# Altium footprint library MT-MONITOR V1.0.0.PcbLib: 47 footprints (part 2 of 3)
Each footprint in its own frame and in the unit in brackets; x right, y up, seen from the top. Pads: shape width x height; smd on the part's side, far side on the other; paste and mask are expansions set on the pad; w line width, h text height; cw(c..) or ccw(c..) is an arc to the next point about the centre after c.
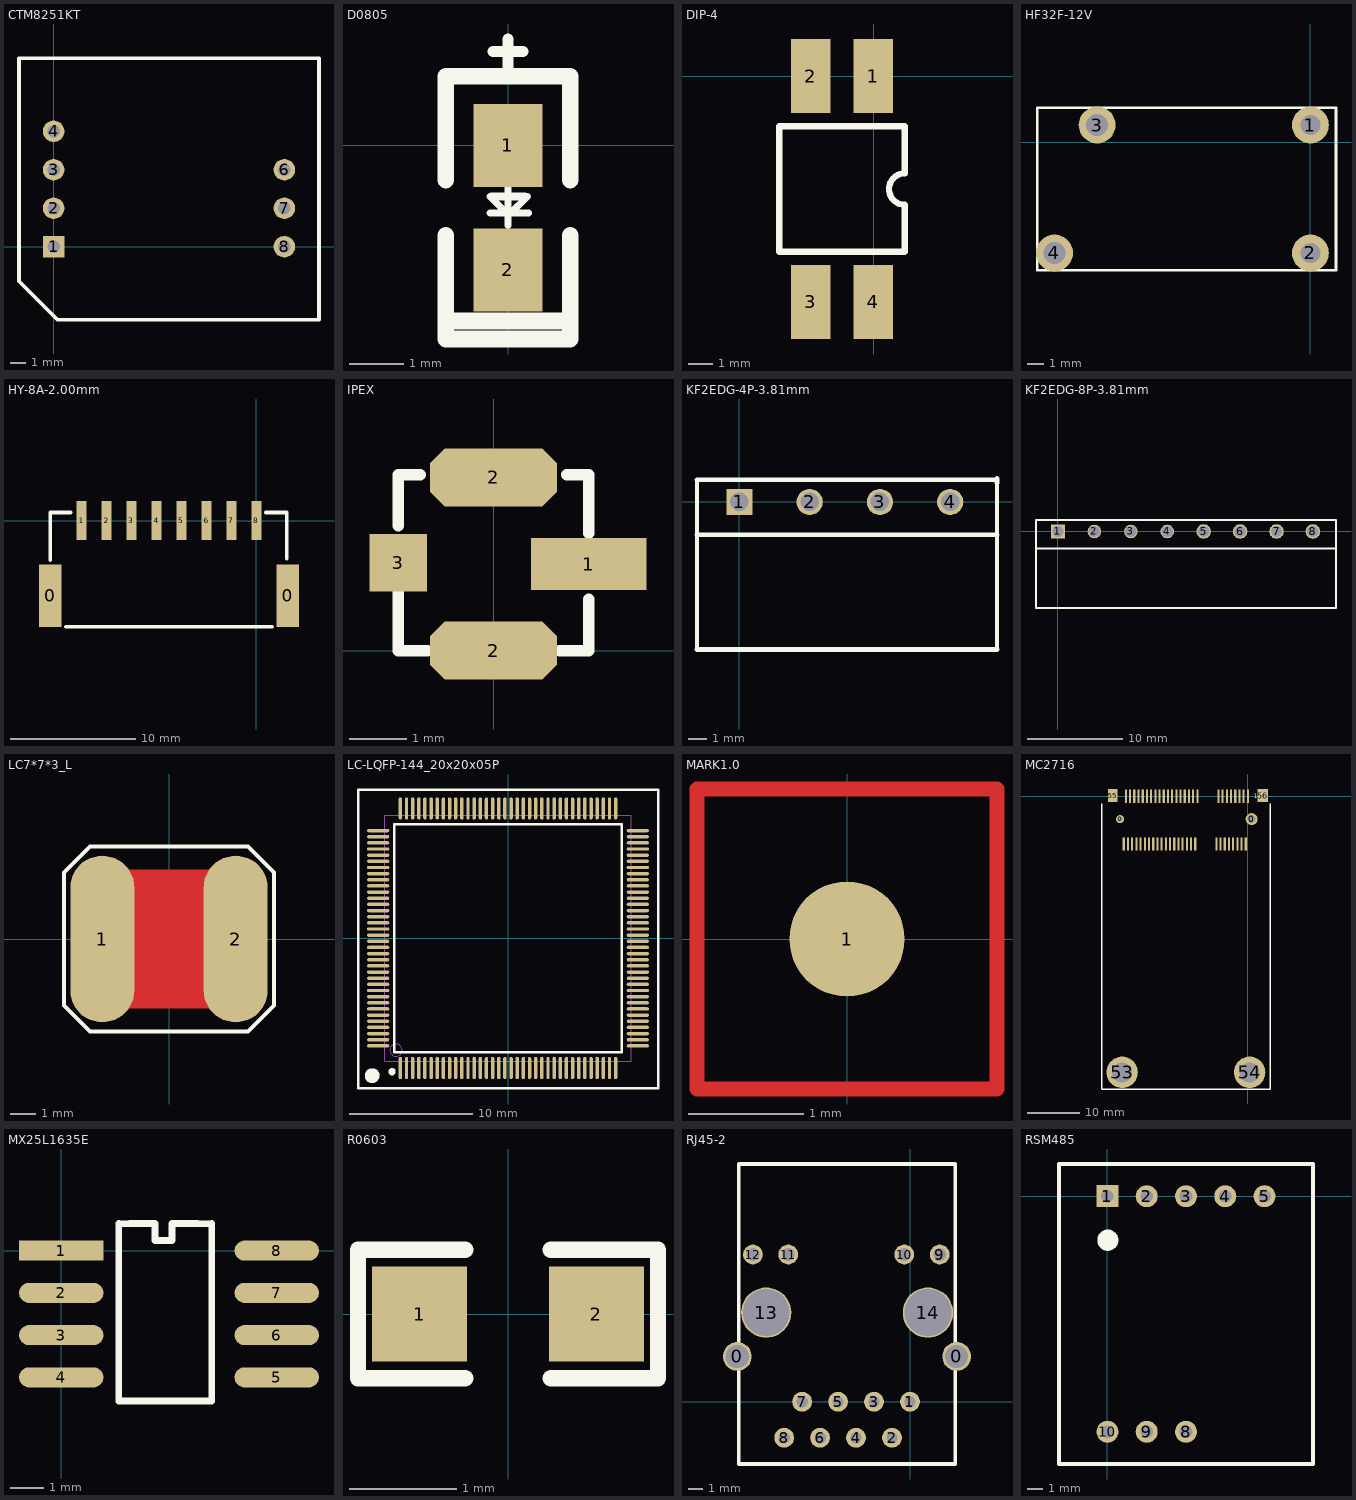
[diagram p1: the footprints below, top view; thin cyan lines are the x and y axes]

## CTM8251KT [mil]
height 66.93
pads (7):
  rect 56x56 hole 32: 1(0,0)
  round 56 hole 32: 2(0,100) 3(0,200) 4(0,300) 6(600,200) 7(600,100) 8(600,0)
Top Overlay:
  lines w10: -90,-90 -90,490 690,490 690,-190 10,-190 -90,-90
3D body: height 275.59, standoff 1, extent -90,-190 690,490

## D0805 [mil]
pads (2):
  rect 50x60 smd: 1(-0.34,-0.09) 2(-0.34,-90.09)
Top Overlay:
  lines w5: -13.34,-49.09 14.66,-49.09 ; -13.34,-37.09 -1.34,-49.09 ; -0.34,-58.09 -0.34,-30.09 ; 1.66,-49.09 13.66,-37.09
  lines w6: -12.34,-37.09 11.66,-37.09
  lines w8: -11.34,67.91 10.66,67.91 ; -0.34,55.91 -0.34,76.91
  lines w12: -45.34,-127.09 44.66,-127.09 ; -45.34,-65.09 -45.34,-140.09 44.66,-140.09 44.66,-65.09 ; -45.34,-25.09 -45.34,49.91 44.66,49.91 44.66,-25.09

## DIP-4 [mm]
height 0.241
pads (4):
  rect 1.6x3 smd: 1(-0.008,0.015) 2(-2.548,0.015) 3(-2.548,-9.129) 4(-0.008,-9.129)
Top Overlay:
  lines w0.254: -3.823,-7.1 -3.823,-2.02 1.257,-2.02 1.257,-3.925 ccw(c1.257,-4.56) 1.257,-5.195 1.257,-7.1 -3.823,-7.1

## HF32F-12V [mm]
height 0.241
pads (4):
  round 2.2 hole 1.2: 1(0,1.016) 2(0,-6.604)
  round 2.2 hole 1.3: 3(-12.7,1.016) 4(-15.24,-6.604)
Top Overlay:
  lines w0.152: -16.256,-7.62 1.524,-7.62 1.524,-7.112 1.524,1.016 1.524,2.032 0.508,2.032 -16.256,2.032 -16.256,1.016 -16.256,-7.62

## HY-8A-2.00mm [mm]
pads (10):
  rect 1.8x5 smd: 0(-16.5,-6) 0(2.5,-6)
  rect 0.8x3.1 smd: 1(-14,0) 2(-12,0) 3(-10,0) 4(-8,0) 5(-6,0) 6(-4,0) 7(-2,0) 8(0,0)
Top Overlay:
  lines w0.3: -16.51,-3.175 -16.51,0.635 -14.859,0.635 ; -15.24,-8.509 1.27,-8.509 ; 0.762,0.635 2.413,0.635 2.413,-3.048

## IPEX [mm]
height 2.5
pads (4):
  rect 2x0.9 smd: 1(1.651,1.5)
  oct 2.2x1 smd: 2(0,0) 2(0,3)
  rect 1x1 smd: 3(-1.651,1.524)
Top Overlay:
  lines w0.2: -1.651,0.786 -1.651,0 ; -1.651,1.016 -1.651,0 ; -1.651,2.159 -1.651,2.794 -1.651,3.048 -1.27,3.048 ; -1.146,-0.003 -1.421,-0.003 -1.648,-0.003 -1.651,0 ; 1.143,0 1.651,0 ; 1.651,2.032 1.651,3.048 ; 1.651,0 1.651,0.889 1.651,0 ; 1.651,0 1.648,-0.003 1.651,0 ; 1.651,3.048 1.27,3.048 1.651,3.048

## KF2EDG-4P-3.81mm [mil]
pads (4):
  rect 56x56 hole 39.37: 1(0,0)
  round 56 hole 39.37: 2(150,0) 3(300,0) 4(450,0)
Top Overlay:
  lines w7.87: -90.55,-314.96 -90.55,47.24
  lines w8: 550,-315 550,40
  lines w10: -90.55,-314.96 549.96,-314.96 ; -90.55,-70 550,-70 ; -90.55,47.24 542.76,47.24 ; 550,40 550,50

## KF2EDG-8P-3.81mm [mil]
height 9.5
pads (8):
  rect 56x56 hole 47.24: 1(0,0)
  round 56 hole 47.24: 2(150,0) 3(300,0) 4(450,0)
  round 60 hole 47.24: 5(600,0) 6(750,0) 7(900,0) 8(1050,0)
Top Overlay:
  lines w7.87: -90.55,-70 1145,-70 ; -90.55,-314.96 1145,-314.96 1145,47.24 -90.55,47.24 -90.55,-314.96

## LC7*7*3_L [mm]
pads (2):
  oval 2.5x6.5 smd: 1(-2.6,0) 2(2.6,0)
Top Layer:
  pour cut-out: -1.803,2.705 1.854,2.705 1.854,-2.705 -1.803,-2.705
Top Overlay:
  lines w0.152: 3.048,-3.607 -2.565,-3.607 -3.073,-3.607 -4.089,-2.591 -4.089,2.591 -3.073,3.607 -2.464,3.607 3.073,3.607 4.089,2.591 4.089,-2.591 3.073,-3.607
3D body: height 3.5, standoff 0, extent -2.455,-2.4 1.845,2.4

## LC-LQFP-144_20x20x05P [mm]
pads (144):
  oval 0.28x1.8 smd mask+0.051: 1(-8.75,-10.55) 2(-8.25,-10.55) 3(-7.75,-10.55) 4(-7.25,-10.55) 5(-6.75,-10.55) 6(-6.25,-10.55) 7(-5.75,-10.55) 8(-5.25,-10.55) 9(-4.75,-10.55) 10(-4.25,-10.55) 11(-3.75,-10.55) 12(-3.25,-10.55) 13(-2.75,-10.55) 14(-2.25,-10.55) 15(-1.75,-10.55) 16(-1.25,-10.55) 17(-0.75,-10.55) 18(-0.25,-10.55) 19(0.25,-10.55) 20(0.75,-10.55) 21(1.25,-10.55) 22(1.75,-10.55) 23(2.25,-10.55) 24(2.75,-10.55) 25(3.25,-10.55) 26(3.75,-10.55) 27(4.25,-10.55) 28(4.75,-10.55) 29(5.25,-10.55) 30(5.75,-10.55) 31(6.25,-10.55) 32(6.75,-10.55) 33(7.25,-10.55) 34(7.75,-10.55) 35(8.25,-10.55) 36(8.75,-10.55) 73(8.75,10.55) 74(8.25,10.55) 75(7.75,10.55) 76(7.25,10.55) 77(6.75,10.55) 78(6.25,10.55) 79(5.75,10.55) 80(5.25,10.55) 81(4.75,10.55) 82(4.25,10.55) 83(3.75,10.55) 84(3.25,10.55) 85(2.75,10.55) 86(2.25,10.55) 87(1.75,10.55) 88(1.25,10.55) 89(0.75,10.55) 90(0.25,10.55) 91(-0.25,10.55) 92(-0.75,10.55) 93(-1.25,10.55) 94(-1.75,10.55) 95(-2.25,10.55) 96(-2.75,10.55) 97(-3.25,10.55) 98(-3.75,10.55) 99(-4.25,10.55) 100(-4.75,10.55) 101(-5.25,10.55) 102(-5.75,10.55) 103(-6.25,10.55) 104(-6.75,10.55) 105(-7.25,10.55) 106(-7.75,10.55) 107(-8.25,10.55) 108(-8.75,10.55)
  oval 1.8x0.28 smd mask+0.051: 37(10.55,-8.75) 38(10.55,-8.25) 39(10.55,-7.75) 40(10.55,-7.25) 41(10.55,-6.75) 42(10.55,-6.25) 43(10.55,-5.75) 44(10.55,-5.25) 45(10.55,-4.75) 46(10.55,-4.25) 47(10.55,-3.75) 48(10.55,-3.25) 49(10.55,-2.75) 50(10.55,-2.25) 51(10.55,-1.75) 52(10.55,-1.25) 53(10.55,-0.75) 54(10.55,-0.25) 55(10.55,0.25) 56(10.55,0.75) 57(10.55,1.25) 58(10.55,1.75) 59(10.55,2.25) 60(10.55,2.75) 61(10.55,3.25) 62(10.55,3.75) 63(10.55,4.25) 64(10.55,4.75) 65(10.55,5.25) 66(10.55,5.75) 67(10.55,6.25) 68(10.55,6.75) 69(10.55,7.25) 70(10.55,7.75) 71(10.55,8.25) 72(10.55,8.75) 109(-10.55,8.75) 110(-10.55,8.25) 111(-10.55,7.75) 112(-10.55,7.25) 113(-10.55,6.75) 114(-10.55,6.25) 115(-10.55,5.75) 116(-10.55,5.25) 117(-10.55,4.75) 118(-10.55,4.25) 119(-10.55,3.75) 120(-10.55,3.25) 121(-10.55,2.75) 122(-10.55,2.25) 123(-10.55,1.75) 124(-10.55,1.25) 125(-10.55,0.75) 126(-10.55,0.25) 127(-10.55,-0.25) 128(-10.55,-0.75) 129(-10.55,-1.25) 130(-10.55,-1.75) 131(-10.55,-2.25) 132(-10.55,-2.75) 133(-10.55,-3.25) 134(-10.55,-3.75) 135(-10.55,-4.25) 136(-10.55,-4.75) 137(-10.55,-5.25) 138(-10.55,-5.75) 139(-10.55,-6.25) 140(-10.55,-6.75) 141(-10.55,-7.25) 142(-10.55,-7.75) 143(-10.55,-8.25) 144(-10.55,-8.75)
Top Overlay:
  circle w0.6: c-11.044,-11.171 r0.3
  circle w0.3: c-9.425,-10.85 r0.15
  lines w0.2: -9.25,-9.25 9.25,-9.25 9.25,9.25 -9.25,9.25 -9.25,-9.25
  lines w0.203: -12.192,-12.192 -12.192,12.065 -11.938,12.065 11.938,12.065 12.192,12.065 12.192,-12.192 -12.192,-12.192
Mechanical 13:
  circle w0.1: c-9.1,-9.1 r0.5
  lines w0.1: -10,-10 10,-10 10,10 -10,10 -10,-10

## MARK1.0 [mm]
pads (1):
  round 1 smd mask+0.5: 1(0,0)
Top Layer:
  lines w0.127: -1.3,-1.3 -1.3,1.3 1.3,1.3 1.3,-1.3 -1.3,-1.3

## MC2716 [mm]
pads (58):
  round 1.524 hole 0.991: 0(-24.3,-4.35)
  round 2.286 hole 1.524: 0(0.7,-4.35)
  rect 0.4x2.5 smd: 1(0,0) 2(-0.4,-9.1) 3(-0.8,0) 4(-1.2,-9.1) 5(-1.6,0) 6(-2,-9.1) 7(-2.4,0) 8(-2.8,-9.1) 9(-3.2,0) 10(-3.6,-9.1) 11(-4,0) 12(-4.4,-9.1) 13(-4.8,0) 14(-5.2,-9.1) 15(-5.6,0) 16(-6,-9.1) 17(-9.6,0) 18(-10,-9.1) 19(-10.4,0) 20(-10.8,-9.1) 21(-11.2,0) 22(-11.6,-9.1) 23(-12,0) 24(-12.4,-9.1) 25(-12.8,0) 26(-13.2,-9.1) 27(-13.6,0) 28(-14,-9.1) 29(-14.4,0) 30(-14.8,-9.1) 31(-15.2,0) 32(-15.6,-9.1) 33(-16,0) 34(-16.4,-9.1) 35(-16.8,0) 36(-17.2,-9.1) 37(-17.6,0) 38(-18,-9.1) 39(-18.4,0) 40(-18.8,-9.1) 41(-19.2,0) 42(-19.6,-9.1) 43(-20,0) 44(-20.4,-9.1) 45(-20.8,0) 46(-21.2,-9.1) 47(-21.6,0) 48(-22,-9.1) 49(-22.4,0) 50(-22.8,-9.1) 51(-23.2,0) 52(-23.6,-9.1)
  round 6 hole 3.8: 53(-23.92,-52.5) 54(0.316,-52.5)
  rect 1.8x2.5 smd: 55(-25.654,0.127)
  rect 2x2.5 smd: 56(2.794,0.127)
Top Overlay:
  lines w0.254: -27.772,-34.088 -27.772,-1.44 ; -27.772,-33.952 -27.772,-49.702 -27.772,-55.634 -27.748,-55.658 4.208,-55.658 4.232,-55.634 4.232,-49.7 ; 4.232,-49.702 4.232,-33.952 4.236,-33.952 ; 4.232,-1.44 4.236,-33.95
  text "1" at 1.1,-0.419 h0.8

## MX25L1635E [mm]
pads (8):
  rect 2.54x0.6 smd: 1(0,0)
  oval 2.54x0.6 smd: 2(0,-1.27) 3(0,-2.54) 4(0,-3.81) 5(6.477,-3.81) 6(6.477,-2.54) 7(6.477,-1.27) 8(6.477,0)
Top Overlay:
  lines w0.2: 1.727,0.813 2.057,0.813 ; 3.759,-4.521 4.521,-4.521 ; 4.089,0.813 4.521,0.813
  lines w0.203: 1.727,0.813 1.727,-4.521 3.759,-4.521 ; 2.057,0.813 2.819,0.813 2.819,0.305 3.327,0.305 3.327,0.813 4.089,0.813 ; 4.521,-4.521 4.521,0.813

## R0603 [mil]
height 9.5
pads (2):
  rect 35x35 smd: 1(-32.5,0) 2(32.5,0)
Top Overlay:
  lines w6: -15.75,-23.62 -55.12,-23.62 -55.12,23.62 -15.75,23.62 ; 15.74,-23.62 55.11,-23.62 55.11,23.62 15.74,23.62
3D body: height 11.89, standoff 0, extent -33.94,-15.75 29.06,15.75

## RJ45-2 [mm]
pads (16):
  round 2.032 hole 1.651: 0(-12.205,3.208)
  round 2.032 hole 1.626: 0(3.295,3.208)
  round 1.4 hole 0.8: 1(-0.005,0.008) 2(-1.275,-2.532) 3(-2.545,0.008) 4(-3.815,-2.532) 5(-5.085,0.008) 6(-6.355,-2.532) 7(-7.625,0.008) 8(-8.895,-2.532)
  round 1.4 hole 0.9: 9(2.095,10.408) 10(-0.405,10.408) 11(-8.605,10.408) 12(-11.105,10.408)
  round 3.556 hole 3.302: 13(-10.165,6.308) 14(1.265,6.308)
Top Overlay:
  lines w0.254: -12.105,-4.392 -12.105,16.808 3.195,16.808 3.195,-4.392 -12.105,-4.392

## RSM485 [mil]
pads (8):
  rect 56x56 hole 32: 1(0,0)
  round 56 hole 32: 2(100,0) 3(200,0) 4(300,0) 5(400,0) 8(200,-600) 9(100,-600) 10(0,-600)
Top Overlay:
  circle w30: c1,-112 r12
  lines w10: -123,-682 523,-682 523,82 -123,82 -123,-682